# Altium schematic symbol library Schlib1.SchLib: 22 symbols
Pins are listed as number, name and electrical type; pins without a type are passive.

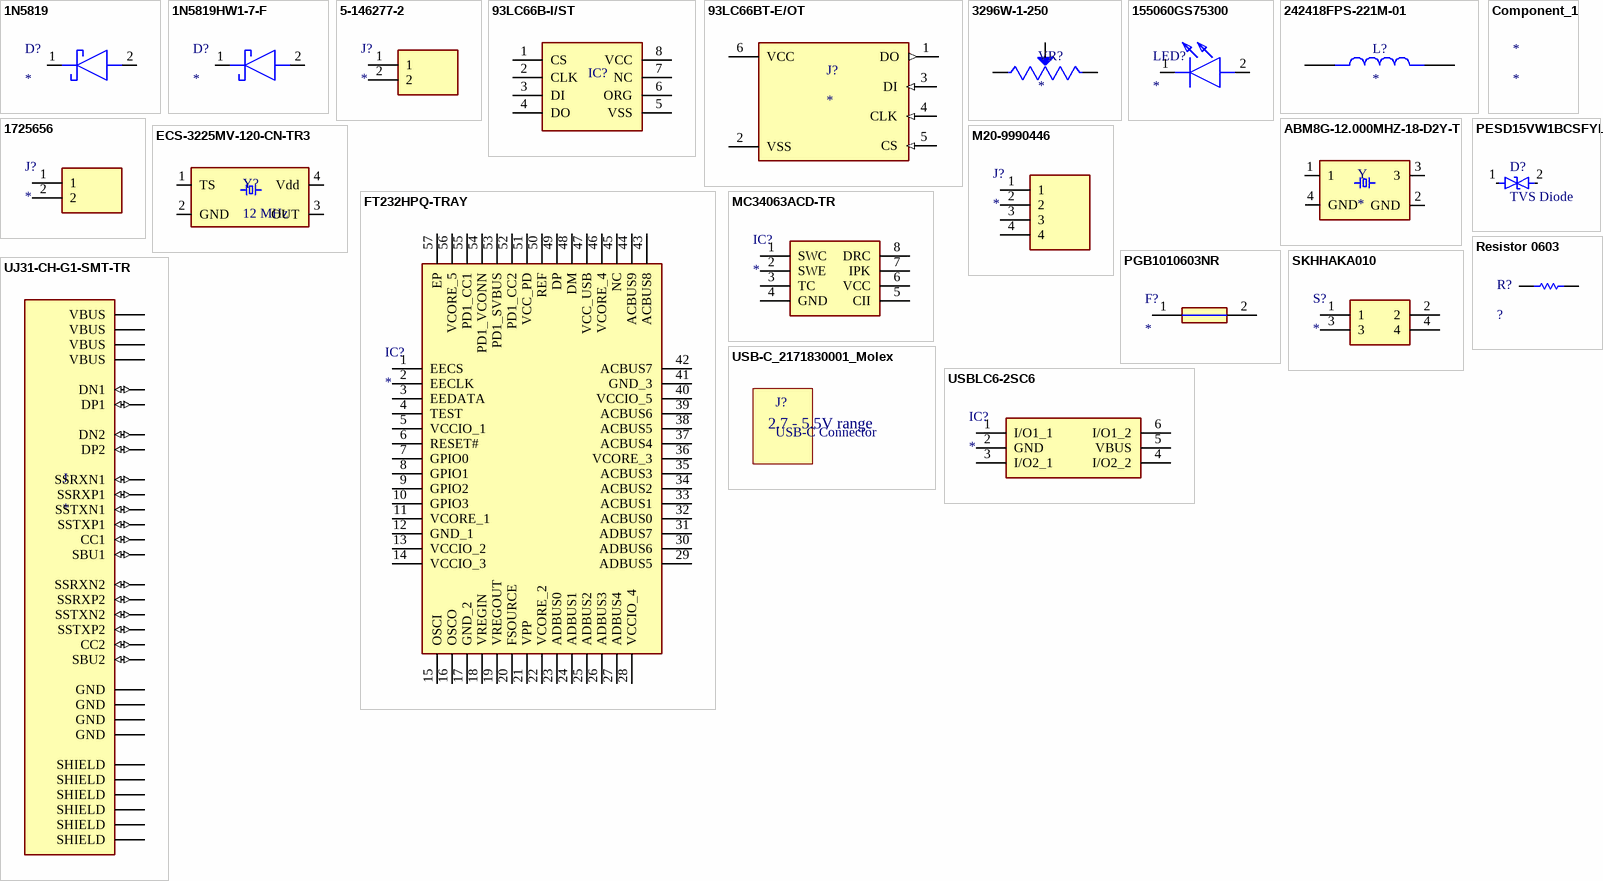
[diagram p0: symbols 1N5819 to USBLC6-2SC6]

## 1N5819
designator D?
Schottky Diode; Manufacturer_Name: NEUTRAL; Manufacturer_Part_Number: 1N5819; Datasheet Link: http://uk.rs-online.com/web/p/products/1124416
footprint DIOAD1796W86L628D292
pins: 1 K, 2 A

## 1N5819HW1-7-F
designator D?
Schottky Diode; Manufacturer_Name: Diodes Inc.; Manufacturer_Part_Number: 1N5819HW1-7-F; Datasheet Link: https://www.diodes.com/assets/Datasheets/1N5819HW1.pdf; Height: 1.15mm; Mouser Part Number: 621-1N5819HW1-7-F; Mouser Price/Stock: https://www.mouser.co.uk/ProductDetail/Diodes-Incorporated/1N5819HW1-7-F?qs=60RJRzIpcl9ACQG7Zn63jQ%3D%3D; Arrow Part Number: 1N5819HW1-7-F; Arrow Price/Stock: https://www.arrow.com/en/products/1n5819hw1-7-f/diodes-incorporated?region=nac
footprint SODFL3518X115N
pins: 1 K, 2 A

## 5-146277-2
designator J?
Connector; Manufacturer_Name: TE Connectivity; Manufacturer_Part_Number: 5-146277-2; Datasheet Link: https://www.te.com/commerce/DocumentDelivery/DDEController?Action=srchrtrv&DocNm=146277&DocType=Customer+Drawing&DocLang=English; Height: 8.23mm; Mouser Part Number: 571-5-146277-2; Mouser Price/Stock: https://www.mouser.co.uk/ProductDetail/TE-Connectivity/5-146277-2/?qs=bwpFY26eRVdSYoepUea0uA%3D%3D; Arrow Part Number: 5-146277-2; Arrow Price/Stock: https://www.arrow.com/en/products/5-146277-2/te-connectivity
footprint HDRV2W67P0X254_1X2_467X234X823P
pins: 1, 2

## 93LC66B-I/ST
designator IC?  (value not drawn)
EEPROM 256x16
footprint SOP8P65_300X640X120L60X24N
pins: 1 CS, 2 CLK, 3 DI, 4 DO, 5 VSS, 6 ORG, 7 NC, 8 VCC

## 93LC66BT-E/OT
designator J?
Microwire Compatible Serial EEPROM; MP: 93LC66BT-E/OT; Package: None; Price: None; Value: *; Availability: Unavailable
footprint SOT95P280X145-6N
pins: 1 DO (out), 2 VSS (power), 3 DI (in), 4 CLK (in), 5 CS (in), 6 VCC (power)

## 3296W-1-250
designator VR?
5K Ohms 0.5W, 1/2W PC Pins Through Hole Trimmer Potentiometer Cermet 25 Turn Top Adjustment; MP: 3296W-1-250; MF: Bourns; Price: None; Check_prices: https://www.snapeda.com/parts/3296W-1-250/Bourns/view-part/421608/?ref=eda; Value: *; Package: SOT-23-5 Bourns; SnapEDA_Link: https://www.snapeda.com/parts/3296W-1-250/Bourns/view-part/421608/?ref=snap; Availability: Bad
footprint TRIM_3296W-1-250
pins: 1 CCW, 2 WIPER, 3 CW

## 155060GS75300
designator LED?
LED; Manufacturer_Name: Wurth Elektronik; Manufacturer_Part_Number: 155060GS75300; Datasheet Link: https://www.mouser.com/datasheet/2/445/155060GS75300-1838964.pdf; Height: 1.18mm; Mouser Part Number: 710-155060GS75300; Mouser Price/Stock: https://www.mouser.co.uk/ProductDetail/Wurth-Elektronik/155060GS75300?qs=GedFDFLaBXH9gWG%252BJzMHAg%3D%3D
footprint LEDC2012X80N
pins: 1 K, 2 A

## 242418FPS-221M-01
designator L?
Inductor 220uH, tolerance=20%, max. current=0.5A, DCR max. = 1104 mOhm
footprint 242418 FPS
pins: 1, 2

## 1725656
designator J?
Screw terminal; Manufacturer_Name: Phoenix Contact; Manufacturer_Part_Number: 1725656; Datasheet Link: https://www.phoenixcontact.com/online/portal/us/?uri=pxc-oc-itemdetail:pid=1725656&library=usen&pcck=P-11-01-05&tab=1&selectedCategory=ALL; Height: 8.65mm; Mouser Part Number: 651-1725656; Mouser Price/Stock: https://www.mouser.co.uk/ProductDetail/Phoenix-Contact/1725656?qs=Ul7CXFMnlWWQeccayYbRmw%3D%3D; Arrow Part Number: 1725656; Arrow Price/Stock: https://www.arrow.com/en/products/1725656/phoenix-contact?region=nac
footprint 1725656
pins: 1, 2

## ABM8G-12.000MHZ-18-D2Y-T
designator Y
12MHz Â±20ppm Crystal 18pF 120 Ohms 4-SMD, No Lead; MF: Abracon; MP: ABM8G-12.000MHZ-18-D2Y-T; Value: *; SnapEDA_Link: https://www.snapeda.com/parts/ABM8G-12.000MHZ-18-D2Y-T/Abracon%20LLC/view-part/419259/?ref=snap; Digi-Key_Part_Number: 535-10261-1-ND; Digi-Key_Purchase_URL: https://www.digikey.com/product-detail/en/abracon-llc/ABM8G-12.000MHZ-18-D2Y-T/535-10261-1-ND/2218074?utm_source=snapeda&utm_medium=aggregator&utm_campaign=symbol; Package: SMD-4 Abracon
footprint OSCSC320X250X100N
pins: 1, 2 GND (power), 3, 4 GND (power)

## Component_1
designator *

## ECS-3225MV-120-CN-TR3
designator Y?, comment 12 MHz
Crystal Oscillator 12 MHz, +/-25 ppm
footprint 520-3225MV120-CN-TR3 - duplicate
pins: 1 TS, 2 GND (power), 3 OUT (power), 4 Vdd

## FT232HPQ-TRAY
designator IC?
Integrated Circuit; Manufacturer_Name: FTDI Chip; Manufacturer_Part_Number: FT232HPQ-TRAY; Datasheet Link: https://www.ftdichip.com/Support/Documents/DataSheets/ICs/DS_FT233HP.pdf; Height: 0.9mm; Mouser Part Number: 895-FT232HPQ-TRAY; Mouser Price/Stock: https://www.mouser.co.uk/ProductDetail/FTDI/FT232HPQ-TRAY?qs=DRkmTr78QAQOR9QDUJT%2FRg%3D%3D
footprint QFN50P800X800X90-57N-D
pins: 1 EECS, 2 EECLK, 3 EEDATA, 4 TEST, 5 VCCIO_1, 6 RESET#, 7 GPIO0, 8 GPIO1, 9 GPIO2, 10 GPIO3, 11 VCORE_1, 12 GND_1, 13 VCCIO_2, 14 VCCIO_3, 15 OSCI, 16 OSCO, 17 GND_2, 18 VREGIN, 19 VREGOUT, 20 FSOURCE, 21 VPP, 22 VCORE_2, 23 ADBUS0, 24 ADBUS1, 25 ADBUS2, 26 ADBUS3, 27 ADBUS4, 28 VCCIO_4, 29 ADBUS5, 30 ADBUS6, 31 ADBUS7, 32 ACBUS0, 33 ACBUS1, 34 ACBUS2, 35 ACBUS3, 36 VCORE_3, 37 ACBUS4, 38 ACBUS5, 39 ACBUS6, 40 VCCIO_5, 41 GND_3, 42 ACBUS7, 43 ACBUS8, 44 ACBUS9, 45 NC, 46 VCORE_4, 47 VCC_USB, 48 DM, 49 DP, 50 REF, 51 VCC_PD, 52 PD1_CC2, 53 PD1_SVBUS, 54 PD1_VCONN, 55 PD1_CC1, 56 VCORE_5, 57 EP

## M20-9990446
designator J?
Connector; Manufacturer_Name: Harwin; Manufacturer_Part_Number: M20-9990446; Datasheet Link: https://www.harwin.com/products/M20-9990446/; Height: 8.89mm; Mouser Part Number: 855-M20-9990446; Mouser Price/Stock: https://www.mouser.co.uk/ProductDetail/Harwin/M20-9990446?qs=ulE8k0yEMYaW%252BOM7jiG6%252Bw%3D%3D
footprint HDRV4W64P0X254_1X4_1016X254X889P
pins: 1, 2, 3, 4

## MC34063ACD-TR
designator IC?
Integrated Circuit; Manufacturer_Name: STMicroelectronics; Manufacturer_Part_Number: MC34063ACD-TR; Datasheet Link: http://www.st.com/st-web-ui/static/active/en/resource/technical/document/datasheet/CD00001232.pdf; Height: 1.75mm; Mouser Part Number: 511-MC34063ACD-TR; Mouser Price/Stock: https://www.mouser.co.uk/ProductDetail/STMicroelectronics/MC34063ACD-TR?qs=zDcCjb1ShEnlEhOFqqejBw%3D%3D; Arrow Part Number: MC34063ACD-TR; Arrow Price/Stock: https://www.arrow.com/en/products/mc34063acd-tr/stmicroelectronics?region=nac
footprint SOIC127P600X175-8N
pins: 1 SWC, 2 SWE, 3 TC, 4 GND, 5 CII, 6 VCC, 7 IPK, 8 DRC

## PESD15VW1BCSFYL
designator D?, comment TVS Diode
PESD15VW1BCSFYL - Extremely low capacitance bidirectional ESD protection diode
footprint PESD15VW1BCSF - TVS Diode
pins: 1, 2

## PGB1010603NR
designator F?
Fuse; Manufacturer_Name: LITTELFUSE; Manufacturer_Part_Number: PGB1010603NR; Datasheet Link: https://componentsearchengine.com/Datasheets/2/PGB1010603NR.pdf; Height: 0.36mm; Mouser Part Number: 576-PGB1010603NR; Mouser Price/Stock: https://www.mouser.co.uk/ProductDetail/Littelfuse/PGB1010603NR?qs=gu7KAQ731UTJOoBJUwB8FA%3D%3D; Arrow Part Number: PGB1010603NR; Arrow Price/Stock: https://www.arrow.com/en/products/pgb1010603nr/littelfuse?region=nac
footprint FUSC1708X36N
pins: 1, 2

## Resistor 0603
designator R?, comment ?
Small resistor symbol 0603; Manufacturer: Panasonic; Manufacturer Part Number: ERJ-2GEJ510X; Voltage Rating: 50V; Resistance: 51R; Power Rating: 100mW; Tolerance: 5%; Temperature Coefficient: 200ppm/°C; Supplier 1: Mouser; Supplier Part Number 1: 667-ERJ-2GEJ510X; RoHS: Yes; Category: Chip SMD Resistors; Stock 1: 49112; Pricing 1: 1=0,10000, 10=0,01900, 50=0,01900, 100=0,00800, 1000=0,00300, 10000=0,00300 (USD); Mount: Surface Mount; Case/Package: 0402; Case Code (Metric): 1005; Case Code (Imperial): 0402; Contact Plating: Tin; Size Code: 0402; Min Operating Temperature: -55°C; Max Operating Temperature: 155°C; Packaging: Tape and Reel; Package Quantity: 1; Resistor Type: Thick Film; Number of Terminations: 2; Termination: SMD/SMT; Max Power Dissipation: 100mW; Voltage Rating (DC): 50V; Features: Automotive AEC-Q200; Series: ERJ; Resistance Tolerance: 5%; Construction: Rectangular; Technology: THICK FILM; Length: 1mm; Width: 0.02inch; Height: 0.35mm; Depth: 0.5mm; REACH SVHC: No SVHC; Military Standard: Not; Lead Free: Lead Free; RoHS Compliant: Yes; ComponentLink1URL: https://datasheet.ciiva.com/34303/1986983-34303549.pdf?src-supplier=Jameco; ComponentLink1Description: https://datasheet.ciiva.com/34303/1986983-34303549.pdf?src-supplier=Jameco; ComponentLink2URL: https://datasheet.ciiva.com/30130/4aoa0000ce1-30130213.pdf?src-supplier=Onlinecomponents.com; ComponentLink2Description: https://datasheet.ciiva.com/30130/4aoa0000ce1-30130213.pdf?src-supplier=Onlinecomponents.com; ComponentLink3URL: https://datasheet.ciiva.com/16522/aoa0000ce1-16522823.pdf?src-supplier=Avnet+Asia; ComponentLink3Description: https://datasheet.ciiva.com/16522/aoa0000ce1-16522823.pdf?src-supplier=Avnet+Asia; ComponentLink4URL: https://datasheet.ciiva.com/16784/70260739-16784088.pdf?src-supplier=Allied+Electronics; ComponentLink4Description: https://datasheet.ciiva.com/16784/70260739-16784088.pdf?src-supplier=Allied+Electronics; ComponentLink5URL: https://datasheet.ciiva.com/43460/1500035-43460360.pdf?src-supplier=Farnell; ComponentLink5Description: https://datasheet.ciiva.com/43460/1500035-43460360.pdf?src-supplier=Farnell; ComponentLink6URL: https://datasheet.ciiva.com/9189/aoa0000ce1-9189069.pdf?src-supplier=Avnet; ComponentLink6Description: https://datasheet.ciiva.com/9189/aoa0000ce1-9189069.pdf?src-supplier=Avnet; ComponentLink7URL: https://datasheet.ciiva.com/46386/1500035-46386749.pdf?src-supplier=Element14; ComponentLink7Description: https://datasheet.ciiva.com/46386/1500035-46386749.pdf?src-supplier=Element14; ComponentLink8URL: https://datasheet.ciiva.com/28565/1678796-28565007.pdf?src-supplier=Element14; ComponentLink8Description: https://datasheet.ciiva.com/28565/1678796-28565007.pdf?src-supplier=Element14
footprint RESC1608X55N
pins: 1, 2

## SKHHAKA010
designator S?
Switch; Manufacturer_Name: ALPS; Manufacturer_Part_Number: SKHHAKA010; Datasheet Link: http://www.alps.com/prod/info/E/HTML/Tact/SnapIn/SKHH/SKHHAKA010.html; Mouser Part Number: 688-SKHHAK; Mouser Price/Stock: https://www.mouser.co.uk/ProductDetail/ALPS/SKHHAKA010?qs=seHrhfPpLDyPUsCTaeDTPQ%3D%3D; Arrow Part Number: SKHHAKA010; Arrow Price/Stock: https://www.arrow.com/en/products/skhhaka010/alps-electric?region=nac
footprint SKHHALA010
pins: 1, 2, 3, 4

## UJ31-CH-G1-SMT-TR
designator J
Type C, USB 3.1 Gen 2, 5 A, Right Angle, Surface Mount _SMT_ , USB Receptacle; MF: CUI Devices; MP: UJ31-CH-G1-SMT-TR; CUI_purchase_URL: https://www.cuidevices.com/product/interconnect/connectors/usb-connectors/uj31-ch-g1-smt-tr?utm_source=snapeda.com&utm_medium=referral&utm_campaign=snapedaBOM; Price: None; SnapEDA_Link: https://www.snapeda.com/parts/UJ31-CH-G1-SMT-TR/CUI%20Devices/view-part/2754415/?ref=snap; Package: None; Availability: Unavailable; Value: *
footprint CUI_UJ31-CH-G1-SMT-TR
footprint CUI_UJ31-CH-G1-SMT-TR - duplicate
pins: A1 GND (power), A2 SSTXP1 (io), A3 SSTXN1 (io), A4 VBUS (power), A5 CC1 (io), A6 DP1 (io), A7 DN1 (io), A8 SBU1 (io), A9 VBUS (power), A10 SSRXN2 (io), A11 SSRXP2 (io), A12 GND (power), B1 GND (power), B2 SSTXP2 (io), B3 SSTXN2 (io), B4 VBUS (power), B5 CC2 (io), B6 DP2 (io), B7 DN2 (io), B8 SBU2 (io), B9 VBUS (power), B10 SSRXN1 (io), B11 SSRXP1 (io), B12 GND (power), SH1 SHIELD (power), SH2 SHIELD (power), SH3 SHIELD (power), SH4 SHIELD (power), SH5 SHIELD (power), SH6 SHIELD (power)

## USB-C_2171830001_Molex
designator J?, comment USB-C Connector
text: 2.7 - 5.5V range

## USBLC6-2SC6
designator IC?
Integrated Circuit; Manufacturer_Name: STMicroelectronics; Manufacturer_Part_Number: USBLC6-2SC6; Datasheet Link: http://www.st.com/st-web-ui/static/active/en/resource/technical/document/datasheet/CD00050750.pdf; Height: 1.45mm; Mouser Part Number: 511-USBLC6-2SC6; Mouser Price/Stock: https://www.mouser.co.uk/ProductDetail/STMicroelectronics/USBLC6-2SC6?qs=po45yt2pPpu%2FhNIlwQdTlg%3D%3D; Arrow Part Number: USBLC6-2SC6; Arrow Price/Stock: https://www.arrow.com/en/products/usblc6-2sc6/stmicroelectronics?region=nac
footprint SOT95P280X145-6N
pins: 1 I/O1_1, 2 GND, 3 I/O2_1, 4 I/O2_2, 5 VBUS, 6 I/O1_2